# Altium footprint library EXB-38V101JV.PcbLib: 2 footprints
Each footprint in its own frame and in the unit in brackets; x right, y up, seen from the top. Pads: shape width x height; smd on the part's side, far side on the other; paste and mask are expansions set on the pad; w line width, h text height; cw(c..) or ccw(c..) is an arc to the next point about the centre after c.
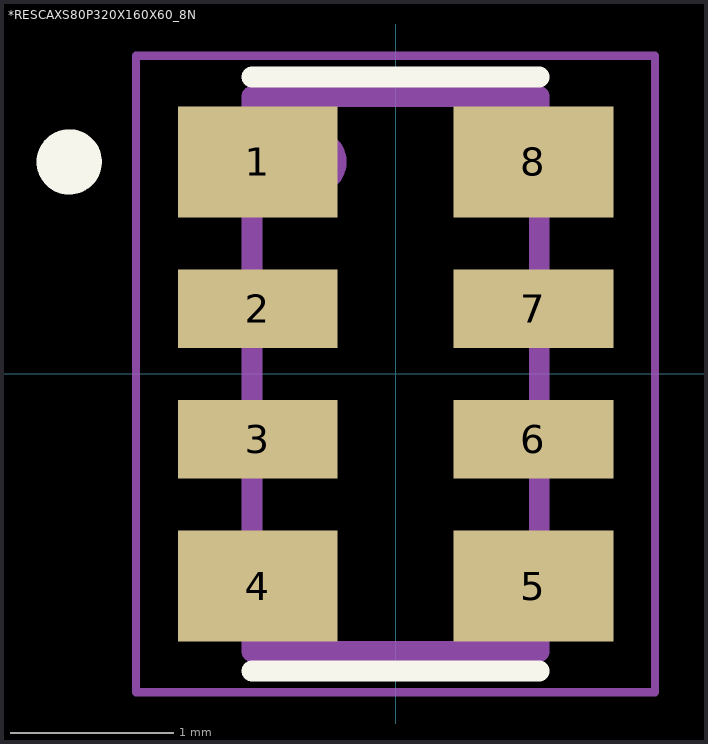
[diagram p0: the footprints below, top view; thin cyan lines are the x and y axes]

## *RESCAXS80P320X160X60_8N [mm]
pads (8):
  rect 0.98x0.68 smd: 1(-0.845,1.3) 4(-0.845,-1.3) 5(0.845,-1.3) 8(0.845,1.3)
  rect 0.98x0.48 smd: 2(-0.845,0.4) 3(-0.845,-0.4) 6(0.845,-0.4) 7(0.845,0.4)
Top Overlay:
  circle w0.2: c-2,1.3 r0.1
  lines w0.127: -0.88,-1.82 0.88,-1.82 ; -0.88,1.82 0.88,1.82
Mechanical 4:
  circle w0.2: c-0.5,1.3 r0.1
  circle w0.2: c-0.5,1.3 r0.1
  lines w0.127: -0.88,-1.7 -0.88,1.7 ; -0.88,-1.7 0.88,-1.7 ; -0.88,-1.7 -0.88,1.7 ; -0.88,-1.7 0.88,-1.7 ; -0.88,1.7 0.88,1.7 ; -0.88,1.7 0.88,1.7 ; 0.88,-1.7 0.88,1.7 ; 0.88,-1.7 0.88,1.7
Mechanical 16:
  lines w0.05: -1.59,-1.95 -1.59,1.95 1.59,1.95 1.59,-1.95 -1.59,-1.95

## PCBComponent_1 [mm]